# Altium integrated library Analog Devices Data Converters Analog-to-Digital Converters.IntLib: 2404 symbols (part 224 of 346)
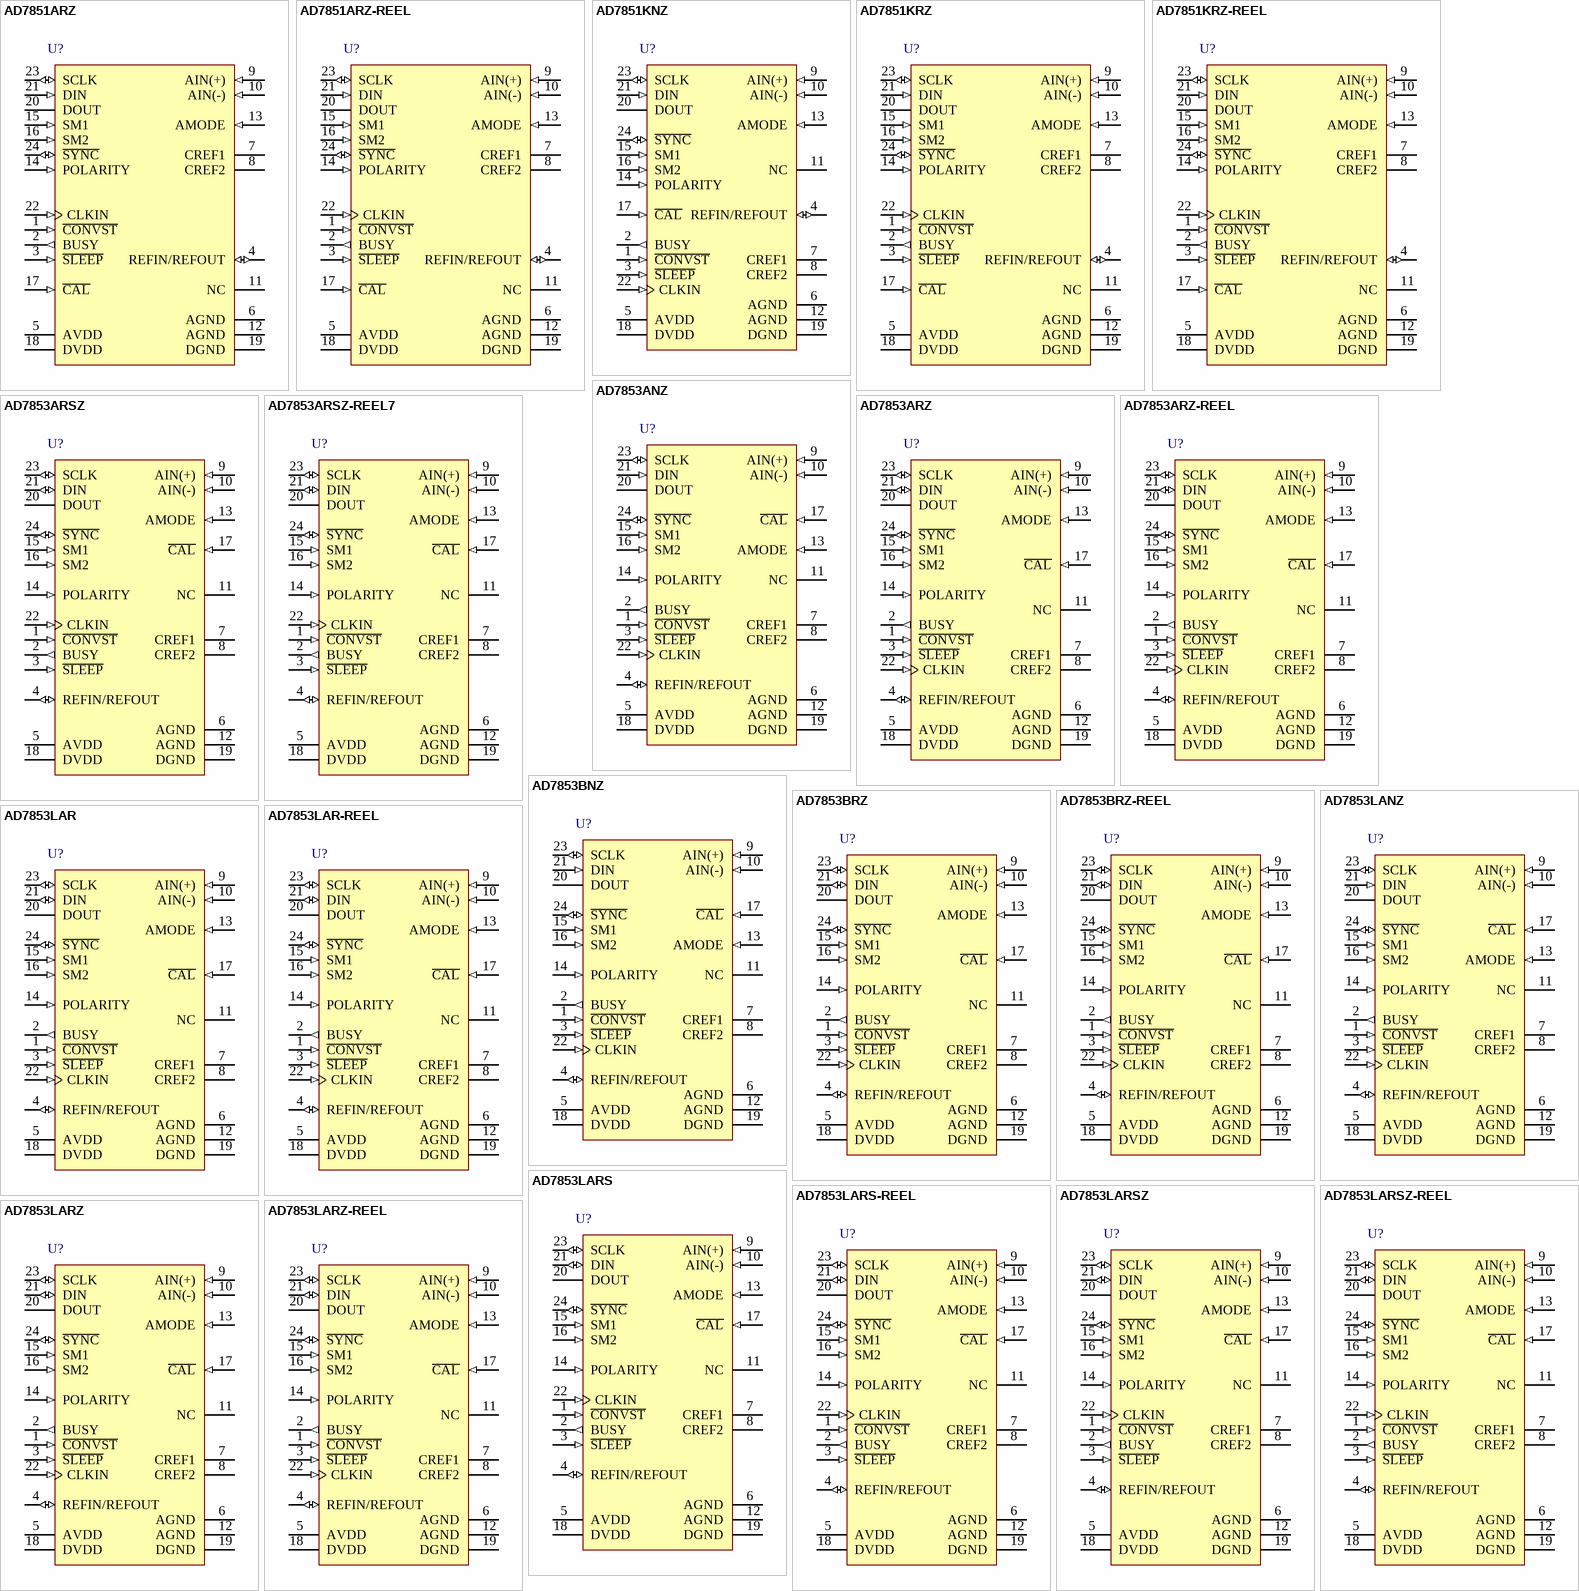
[diagram p275: symbols AD7851ARZ to AD7853LARZ-REEL]

## AD7851KNZ
designator U?
Single 14-Bit Analog-to-Digital Converter with Serial, SPI Interface, 285KSPS, 0 to +70 degC, N-24, Pb-Free, Tube; Generic Part Number: AD7851K; Manufacturer: Analog Devices; PartNumber: AD7851KNZ; Resolution (Bits): 14; Channels: 1; Throughput Rate (SPS): 285K; Interface: Ser, SPI; DatasheetVersion: Rev.B; PackageVersion: 2000; PackageReference: N-24; PackageDescription: 24-Lead Plastic Dual In-Line Package [PDIP]; Supplier 1: Digi-Key; Supplier Part Number 1: AD7851KNZ-ND; Supplier 2: Mouser; Supplier Part Number 2: 584-AD7851KNZ; RoHS: Y; Packing: Tube; Mounting Technology: Through-hole; ComponentLink1Description: Manufacturer URL; ComponentLink1URL: http://www.analog.com/en/index.html; ComponentLink2Description: Datasheet; ComponentLink2URL: http://www.analog.com/static/imported-files/data_sheets/AD7851.pdf; ComponentLink3Description: Package Specification; ComponentLink3URL: N-24; ComponentLink4Description: Product URL; ComponentLink4URL: http://www.analog.com/en/analog-to-digital-converters/ad-converters/ad7851/products/product.html
footprint N-24 (DIP, 24-Leads, Row Spacing 7.62mm, Pitch 2.54mm, Body 31.2x6.6mm)
pins: 1 ~{CONVST} (in) "Convert Start. Logic input. A low-to-high transition on this input puts the track-and-hold into its hold mode and starts conversion. When this input is not used, it should be tied to DVDD.", 2 BUSY (out) "Busy Output. The busy output is triggered high by the falling edge of C\O\N\V\S\T\ or rising edge of C\A\L\ and remains high until conversion is completed. BUSY is also used to indicate when the AD7851 has completed its (See Datasheet)", 3 ~{SLEEP} (in) "Sleep Input/Low Power Mode. A Logic 0 initiates a sleep and all circuitry is powered down, including the internal voltage reference, provided there is no conversion or calibration being performed. Calibration data is (See Datasheet)", 4 REFIN/REFOUT (io) "Reference Input/Output. This pin is connected to the internal reference through a series resistor and is the reference source for the analog-to-digital converter. The nominal reference voltage is 4.096 V and this appears at (See Datasheet)", 5 AVDD (power) "Analog Positive Supply Voltage, 5.0 V +/- 5%.", 6 AGND (power) "Analog Ground. Ground reference for track and hold, reference, and DAC.", 7 CREF1 "Reference Capacitor (0.1 uF ceramic disc in parallel with a 470 nF tantalum). This external capacitor is used as a charge source for the internal DAC. The capacitor should be tied between the pin and AGND.", 8 CREF2 "Reference Capacitor (0.01 uF ceramic disc). This external capacitor is used in conjunction with the on-chip reference. The capacitor should be tied between the pin and AGND.", 9 AIN(+) (in) "Analog Input. Positive input of the pseudo-differential analog input. Cannot go below AGND or above AVDD at any time and cannot go below AIN(-) when the unipolar input range is selected.", 10 AIN(-) (in) "Analog Input. Negative input of the pseudo-differential analog input. Cannot go below AGND or above AVDD at any time.", 11 NC "No Connect Pin.", 12 AGND (power) "Analog Ground. Ground reference for track and hold, reference, and DAC.", 13 AMODE (in) "Analog Mode Pin. This pin allows two different analog input ranges to be selected. A Logic 0 selects range 0 to VREF (i.e., AIN(+) - AIN(-) = 0 to VREF). In this case, AIN(+) cannot go below AIN(-) and AIN(-) cannot go below (See Datasheet)", 14 POLARITY (in) "Serial Clock Polarity. This pin determines the active edge of the serial clock (SCLK). Toggling this pin will reverse the active edge of the serial clock (SCLK). A Logic 1 means that the serial clock (SCLK) idles high and a (See Datasheet)", 15 SM1 (in) "Serial Mode Select Pin. This pin is used in conjunction with the SM2 pin to give different modes of operation as described in Table X.", 16 SM2 (in) "Serial Mode Select Pin. This pin is used in conjunction with the SM1 pin to give different modes of operation as described in Table X.", 17 ~{CAL} (in) "Calibration Input. This pin has an internal pull-up current source of 0.15 uA. A Logic 0 on this pin resets all calibration control logic and initiates a calibration on its rising edge. There is the option of connecting a 10 (See Datasheet)", 18 DVDD (power) "Digital Supply Voltage, 5.0 V +/- 5%.", 19 DGND (power) "Digital Ground. Ground reference point for digital circuitry.", 20 DOUT (hiz) "Serial Data Output. The data output is supplied to this pin as a 16-bit serial word.", 21 DIN (in) "Serial Data Input. The data to be written is applied to this pin in serial form (16-bit word). This pin can act as an input pin or as a input and output pin depending on the serial interface mode the part is in (see Table X).", 22 CLKIN (in) "Master Clock Signal for the Device (6 MHz or 7 MHz). Sets the conversion and calibration times.", 23 SCLK (io) "Serial Port Clock. Logic input/output. The SCLK pin is configured as an input or output, dependent on the type of serial data transmission (self-clocking or external-clocking) that has been selected by the SM1 and SM2 pins. (See Datasheet)", 24 ~{SYNC} (io) "This pin can be an input level triggered active low (similar to a chip select in one case and to a frame sync in the other) or an output (similar to a frame sync) pin depending on SM1, SM2 (see Table X)."

## AD7851KRZ
designator U?
Single 14-Bit Analog-to-Digital Converter with Serial, SPI Interface, 285KSPS, 0 to +70 degC, RW-24, Pb-Free, Tube; Generic Part Number: AD7851K; Manufacturer: Analog Devices; PartNumber: AD7851KRZ; Resolution (Bits): 14; Channels: 1; Throughput Rate (SPS): 285K; Interface: Ser, SPI; DatasheetVersion: Rev.B; PackageVersion: 060706-A; PackageReference: RW-24; PackageDescription: 24-Lead Standard Small Outline Package [SOIC_W]; Supplier 1: Digi-Key; Supplier Part Number 1: AD7851KRZ-ND; Supplier 2: Mouser; Supplier Part Number 2: 584-AD7851KRZ; RoHS: Y; Packing: Tube; Mounting Technology: Surface Mount; Code_JEDEC: MS-013-AD; ComponentLink1Description: Manufacturer URL; ComponentLink1URL: http://www.analog.com/en/index.html; ComponentLink2Description: Datasheet; ComponentLink2URL: http://www.analog.com/static/imported-files/data_sheets/AD7851.pdf; ComponentLink3Description: Package Specification; ComponentLink3URL: http://www.analog.com/static/imported-files/packages/33665150946139RW_24.pdf; ComponentLink4Description: Product URL; ComponentLink4URL: http://www.analog.com/en/analog-to-digital-converters/ad-converters/ad7851/products/product.html
footprint RW-24_N (SOIC, 24-Leads, Body 15.4x7.5mm, Pitch 1.27mm, IPC Medium Density)
footprint RW-24_L (SOIC, 24-Leads, Body 15.4x7.5mm, Pitch 1.27mm, IPC High Density)
footprint RW-24_M (SOIC, 24-Leads, Body 15.4x7.5mm, Pitch 1.27mm, IPC Low Density)
pins: 1 ~{CONVST} (in) "Convert Start. Logic input. A low-to-high transition on this input puts the track-and-hold into its hold mode and starts conversion. When this input is not used, it should be tied to DVDD.", 2 BUSY (out) "Busy Output. The busy output is triggered high by the falling edge of C\O\N\V\S\T\ or rising edge of C\A\L\ and remains high until conversion is completed. BUSY is also used to indicate when the AD7851 has completed its (See Datasheet)", 3 ~{SLEEP} (in) "Sleep Input/Low Power Mode. A Logic 0 initiates a sleep and all circuitry is powered down, including the internal voltage reference, provided there is no conversion or calibration being performed. Calibration data is (See Datasheet)", 4 REFIN/REFOUT (io) "Reference Input/Output. This pin is connected to the internal reference through a series resistor and is the reference source for the analog-to-digital converter. The nominal reference voltage is 4.096 V and this appears at (See Datasheet)", 5 AVDD (power) "Analog Positive Supply Voltage, 5.0 V +/- 5%.", 6 AGND (power) "Analog Ground. Ground reference for track and hold, reference, and DAC", 7 CREF1 "Reference Capacitor (0.1 μF ceramic disc in parallel with a 470 nF tantalum). This external capacitor is used as a charge source for the internal DAC. The capacitor should be tied between the pin and AGND.", 8 CREF2 "Reference Capacitor (0.01 μF ceramic disc). This external capacitor is used in conjunction with the on-chip reference. The capacitor should be tied between the pin and AGND.", 9 AIN(+) (in) "Analog Input. Positive input of the pseudo-differential analog input. Cannot go below AGND or above AVDD at any time and cannot go below AIN(-) when the unipolar input range is selected.", 10 AIN(-) (in) "Analog Input. Negative input of the pseudo-differential analog input. Cannot go below AGND or above AVDD at any time.", 11 NC "No Connect Pin.", 12 AGND (power) "Analog Ground. Ground reference for track and hold, reference, and DAC", 13 AMODE (in) "Analog Mode Pin. This pin allows two different analog input ranges to be selected. A Logic 0 selects range 0 to VREF (i.e., AIN(+) - AIN(-) = 0 to VREF). In this case, AIN(+) cannot go below AIN(-) and AIN(-) cannot go below (See Datasheet)", 14 POLARITY (in) "Serial Clock Polarity. This pin determines the active edge of the serial clock (SCLK). Toggling this pin will reverse the active edge of the serial clock (SCLK). A Logic 1 means that the serial clock (SCLK) idles high and a (See Datasheet)", 15 SM1 (in) "Serial Mode Select Pin. This pin is used in conjunction with the SM2 pin to give different modes of operation as described in Table X", 16 SM2 (in) "Serial Mode Select Pin. This pin is used in conjunction with the SM1 pin to give different modes of operation as described in Table X.", 17 ~{CAL} (in) "Calibration Input. This pin has an internal pull-up current source of 0.15 μA. A Logic 0 on this pin resets all calibration control logic and initiates a calibration on its rising edge. There is the option of connecting a 10 (See Datasheet)", 18 DVDD (power) "Digital Supply Voltage, 5.0 V +/- 5%.", 19 DGND (power) "Digital Ground. Ground reference point for digital circuitry.", 20 DOUT (hiz) "Serial Data Output. The data output is supplied to this pin as a 16-bit serial word.", 21 DIN (in) "Serial Data Input. The data to be written is applied to this pin in serial form (16-bit word). This pin can act as an input pin or as a input and output pin depending on the serial interface mode the part is in (see Table X).", 22 CLKIN (in) "Master Clock Signal for the Device (6 MHz or 7 MHz). Sets the conversion and calibration times.", 23 SCLK (io) "Serial Port Clock. Logic input/output. The SCLK pin is configured as an input or output, dependent on the type of serial data transmission (self-clocking or external-clocking) that has been selected by the SM1 and SM2 pins. (See Datasheet)", 24 ~{SYNC} (io) "This pin can be an input level triggered active low (similar to a chip select in one case and to a frame sync in the other) or an output (similar to a frame sync) pin depending on SM1, SM2 (see Table X)."

## AD7851KRZ-REEL
designator U?
Single 14-Bit Analog-to-Digital Converter with Serial, SPI Interface, 285KSPS, 0 to +70 degC, RW-24, Pb-Free, Reel; Generic Part Number: AD7851K; Manufacturer: Analog Devices; PartNumber: AD7851KRZ-REEL; Resolution (Bits): 14; Channels: 1; Throughput Rate (SPS): 285K; Interface: Ser, SPI; DatasheetVersion: Rev.B; PackageVersion: 060706-A; PackageReference: RW-24; PackageDescription: 24-Lead Standard Small Outline Package [SOIC_W]; Supplier 1: Digi-Key; Supplier Part Number 1: AD7851KRZ-REEL-ND; Supplier 2: Mouser; Supplier Part Number 2: 584-AD7851KRZ-R; RoHS: Y; Packing: Reel; Mounting Technology: Surface Mount; Code_JEDEC: MS-013-AD; ComponentLink1Description: Manufacturer URL; ComponentLink1URL: http://www.analog.com/en/index.html; ComponentLink2Description: Datasheet; ComponentLink2URL: http://www.analog.com/static/imported-files/data_sheets/AD7851.pdf; ComponentLink3Description: Package Specification; ComponentLink3URL: http://www.analog.com/static/imported-files/packages/33665150946139RW_24.pdf; ComponentLink4Description: Product URL; ComponentLink4URL: http://www.analog.com/en/analog-to-digital-converters/ad-converters/ad7851/products/product.html
footprint RW-24_N (SOIC, 24-Leads, Body 15.4x7.5mm, Pitch 1.27mm, IPC Medium Density)
footprint RW-24_L (SOIC, 24-Leads, Body 15.4x7.5mm, Pitch 1.27mm, IPC High Density)
footprint RW-24_M (SOIC, 24-Leads, Body 15.4x7.5mm, Pitch 1.27mm, IPC Low Density)
pins: 1 ~{CONVST} (in) "Convert Start. Logic input. A low-to-high transition on this input puts the track-and-hold into its hold mode and starts conversion. When this input is not used, it should be tied to DVDD.", 2 BUSY (out) "Busy Output. The busy output is triggered high by the falling edge of C\O\N\V\S\T\ or rising edge of C\A\L\ and remains high until conversion is completed. BUSY is also used to indicate when the AD7851 has completed its (See Datasheet)", 3 ~{SLEEP} (in) "Sleep Input/Low Power Mode. A Logic 0 initiates a sleep and all circuitry is powered down, including the internal voltage reference, provided there is no conversion or calibration being performed. Calibration data is (See Datasheet)", 4 REFIN/REFOUT (io) "Reference Input/Output. This pin is connected to the internal reference through a series resistor and is the reference source for the analog-to-digital converter. The nominal reference voltage is 4.096 V and this appears at (See Datasheet)", 5 AVDD (power) "Analog Positive Supply Voltage, 5.0 V +/- 5%.", 6 AGND (power) "Analog Ground. Ground reference for track and hold, reference, and DAC", 7 CREF1 "Reference Capacitor (0.1 μF ceramic disc in parallel with a 470 nF tantalum). This external capacitor is used as a charge source for the internal DAC. The capacitor should be tied between the pin and AGND.", 8 CREF2 "Reference Capacitor (0.01 μF ceramic disc). This external capacitor is used in conjunction with the on-chip reference. The capacitor should be tied between the pin and AGND.", 9 AIN(+) (in) "Analog Input. Positive input of the pseudo-differential analog input. Cannot go below AGND or above AVDD at any time and cannot go below AIN(-) when the unipolar input range is selected.", 10 AIN(-) (in) "Analog Input. Negative input of the pseudo-differential analog input. Cannot go below AGND or above AVDD at any time.", 11 NC "No Connect Pin.", 12 AGND (power) "Analog Ground. Ground reference for track and hold, reference, and DAC", 13 AMODE (in) "Analog Mode Pin. This pin allows two different analog input ranges to be selected. A Logic 0 selects range 0 to VREF (i.e., AIN(+) - AIN(-) = 0 to VREF). In this case, AIN(+) cannot go below AIN(-) and AIN(-) cannot go below (See Datasheet)", 14 POLARITY (in) "Serial Clock Polarity. This pin determines the active edge of the serial clock (SCLK). Toggling this pin will reverse the active edge of the serial clock (SCLK). A Logic 1 means that the serial clock (SCLK) idles high and a (See Datasheet)", 15 SM1 (in) "Serial Mode Select Pin. This pin is used in conjunction with the SM2 pin to give different modes of operation as described in Table X", 16 SM2 (in) "Serial Mode Select Pin. This pin is used in conjunction with the SM1 pin to give different modes of operation as described in Table X.", 17 ~{CAL} (in) "Calibration Input. This pin has an internal pull-up current source of 0.15 μA. A Logic 0 on this pin resets all calibration control logic and initiates a calibration on its rising edge. There is the option of connecting a 10 (See Datasheet)", 18 DVDD (power) "Digital Supply Voltage, 5.0 V +/- 5%.", 19 DGND (power) "Digital Ground. Ground reference point for digital circuitry.", 20 DOUT (hiz) "Serial Data Output. The data output is supplied to this pin as a 16-bit serial word.", 21 DIN (in) "Serial Data Input. The data to be written is applied to this pin in serial form (16-bit word). This pin can act as an input pin or as a input and output pin depending on the serial interface mode the part is in (see Table X).", 22 CLKIN (in) "Master Clock Signal for the Device (6 MHz or 7 MHz). Sets the conversion and calibration times.", 23 SCLK (io) "Serial Port Clock. Logic input/output. The SCLK pin is configured as an input or output, dependent on the type of serial data transmission (self-clocking or external-clocking) that has been selected by the SM1 and SM2 pins. (See Datasheet)", 24 ~{SYNC} (io) "This pin can be an input level triggered active low (similar to a chip select in one case and to a frame sync in the other) or an output (similar to a frame sync) pin depending on SM1, SM2 (see Table X)."

## AD7853ANZ
designator U?
Single 12-Bit Sampling Analog-to-Digital Converter with Serial, SPI Interface, Single Supply, 3 to 5 V 200KSPS, 0 to +70 degC, N-24-1, Pb-Free, Tube; Generic Part Number: AD7853A/B; Manufacturer: Analog Devices; PartNumber: AD7853ANZ; Resolution (Bits): 12; Channels: 1; Throughput Rate (SPS): 200K; Interface: Ser, SPI; DatasheetVersion: Rev.B; PackageVersion: 071006-A; PackageReference: N-24-1; PackageDescription: 24-Lead Plastic Dual In-Line Package [PDIP] Narrow Body; Supplier 1: Digi-Key; Supplier Part Number 1: AD7853ANZ-ND; RoHS: Y; Packing: Tube; Mounting Technology: Through-hole; Code_JEDEC: MS-001; ComponentLink1Description: Manufacturer URL; ComponentLink1URL: http://www.analog.com/en/index.html; ComponentLink2Description: Datasheet; ComponentLink2URL: http://www.analog.com/static/imported-files/data_sheets/AD7853_7853L.pdf; ComponentLink3Description: Package Specification; ComponentLink3URL: http://www.analog.com/static/imported-files/packages/50726455539629N_24_1.pdf; ComponentLink4Description: Product URL; ComponentLink4URL: http://www.analog.com/en/analog-to-digital-converters/ad-converters/ad7853/products/product.html
footprint N-24-1 (DIP, 24-Leads, Row Spacing 7.62mm, Pitch 2.54mm, Body 31.9x6.6mm)
pins: 1 ~{CONVST} (in) "Convert Start. Logic Input. A low to high transition on this input puts the track/hold into its hold mode and starts conversion. When this input is not used, it should be tied to DVDD.", 2 BUSY (out) "Busy Output. The busy output is triggered high by the falling edge of C\O\N\V\S\T\ or rising edge of C\A\L\, and remains high until conversion is completed. BUSY is also used to indicate when the AD7853/AD7853L has completed (See Datasheet)", 3 ~{SLEEP} (in) "Sleep Input/Low Power Mode. A Logic 0 initiates a sleep and all circuitry is powered down including the internal voltage reference provided there is no conversion or calibration being performed. Calibration data is retained. (See Datasheet)", 4 REFIN/REFOUT (io) "Reference Input/Output. This pin is connected to the internal reference through a series resistor and is the reference source for the analog-to-digital converter. The nominal reference voltage is 2.5 V and this appears at (See Datasheet)", 5 AVDD (power) "Analog Positive Supply Voltage, +3.0 V to +5.5 V.", 6 AGND (power) "Analog Ground. Ground reference for track/hold, reference and DAC.", 7 CREF1 "Reference Capacitor (0.1 uF multilayer ceramic). This external capacitor is used as a charge source for the internal DAC. The capacitor should be tied between the pin and AGND.", 8 CREF2 "Reference Capacitor (0.01 uF ceramic disc). This external capacitor is used in conjunction with the on-chip reference. The capacitor should be tied between the pin and AGND.", 9 AIN(+) (in) "Analog Input. Positive input of the pseudo-differential analog input. Cannot go below AGND or above AVDD at any time, and cannot go below AIN(-) when the unipolar input range is selected.", 10 AIN(-) (in) "Analog Input. Negative input of the pseudo-differential analog input. Cannot go below AGND or above AVDD at any time.", 11 NC "No Connect Pin.", 12 AGND (power) "Analog Ground. Ground reference for track/hold, reference and DAC.", 13 AMODE (in) "Analog Mode Pin. This pin allows two different analog input ranges to be selected. A Logic 0 selects range 0 to VREF (i.e., AIN(+) - AIN(-) = 0 to VREF). In this case AIN(+) cannot go below AIN(-) and AIN(-) cannot go below (See Datasheet)", 14 POLARITY (in) "Serial Clock Polarity. This pin determines the active edge of the serial clock (SCLK). Toggling this pin will reverse the active edge of the serial clock (SCLK). A Logic 1 means that the serial clock (SCLK) idles high and a (See Datasheet)", 15 SM1 (in) "Serial Mode Select Pin. This pin is used in conjunction with the SM2 pin to give different modes of operation as described in Table X.", 16 SM2 (in) "Serial Mode Select Pin. This pin is used in conjunction with the SM1 pin to give different modes of operation as described in Table X.", 17 ~{CAL} (in) "Calibration Input. This pin has an internal pull-up current source of 0.15 mA. A Logic 0 on this pin resets all calibration control logic and initiates a calibration on its rising edge. There is the option of connecting a 10 (See Datasheet)", 18 DVDD (power) "Digital Supply Voltage, +3.0 V to +5.5 V.", 19 DGND (power) "Digital Ground. Ground reference point for digital circuitry.", 20 DOUT (hiz) "Serial Data Output. The data output is supplied to this pin as a 16-bit serial word.", 21 DIN (in) "Serial Data Input. The data to be written is applied to this pin in serial form (16-bit word). This pin can act as an input pin or as a I/O pin depending on the serial interface mode the part is in (see Table X).", 22 CLKIN (in) "Master Clock Signal for the device (4 MHz for AD7853, 1.8 MHz for AD7853L). Sets the conversion and calibration times.", 23 SCLK (io) "Serial Port Clock. Logic input/output. The SCLK pin is configured as an input or output, dependent on the type of serial data transmission (self-clocking or external-clocking) that has been selected by the SM1 and SM2 pins. (See Datasheet)", 24 ~{SYNC} (io) "This pin can be an input level triggered active low (similar to a chip select in one case and to a frame sync in the other) or an output (similar to a frame sync) pin depending on SM1, SM2 (see Table X)."

## AD7853ARSZ
designator U?
Single 12-Bit Sampling Analog-to-Digital Converter with Serial, SPI Interface, Single Supply, 3 to 5 V 200KSPS, 0 to +70 degC, RS-24, Pb-Free, Tube; Generic Part Number: AD7853A/B; Manufacturer: Analog Devices; PartNumber: AD7853ARSZ; Resolution (Bits): 12; Channels: 1; Throughput Rate (SPS): 200K; Interface: Ser, SPI; DatasheetVersion: Rev.B; PackageVersion: Jan-2004; PackageReference: RS-24; PackageDescription: 24-Lead Shrink Small Outline Package [SSOP]; Supplier 1: Digi-Key; Supplier Part Number 1: AD7853ARSZ-ND; RoHS: Y; Packing: Tube; Mounting Technology: Surface Mount; Code_JEDEC: MO-150-AG; ComponentLink1Description: Manufacturer URL; ComponentLink1URL: http://www.analog.com/en/index.html; ComponentLink2Description: Datasheet; ComponentLink2URL: http://www.analog.com/static/imported-files/data_sheets/AD7853_7853L.pdf; ComponentLink3Description: Package Specification; ComponentLink3URL: http://www.analog.com/static/imported-files/packages/320374674442511497835109639857509214147739880195087340RS_24.pdf; ComponentLink4Description: Product URL; ComponentLink4URL: http://www.analog.com/en/analog-to-digital-converters/ad-converters/ad7853/products/product.html
footprint RS-24_N (SOP, 24-Leads, Body 8.2x5.3mm, Pitch 0.65mm, IPC Medium Density)
footprint RS-24_L (SOP, 24-Leads, Body 8.2x5.3mm, Pitch 0.65mm, IPC High Density)
footprint RS-24_M (SOP, 24-Leads, Body 8.2x5.3mm, Pitch 0.65mm, IPC Low Density)
pins: 1 ~{CONVST} (in) "Convert Start. Logic Input. A low to high transition on this input puts the track/hold into its hold mode and starts conversion. When this input is not used, it should be tied to DVDD.", 2 BUSY (out) "Busy Output. The busy output is triggered high by the falling edge of C\O\N\V\S\T\ or rising edge of C\A\L\, and remains high until conversion is completed. BUSY is also used to indicate when the AD7853/AD7853L has completed (See Datasheet)", 3 ~{SLEEP} (in) "Sleep Input/Low Power Mode. A Logic 0 initiates a sleep and all circuitry is powered down including the internal voltage reference provided there is no conversion or calibration being performed. Calibration data  is retained.(See Datasheet)", 4 REFIN/REFOUT (io) "Reference Input/Output. This pin is connected to the internal reference through a series resistor and is the  reference source for the analog-to-digital converter. The nominal reference voltage is 2.5 V and this appears at (See Datasheet)", 5 AVDD (power) "Analog Positive Supply Voltage, +3.0 V to +5.5 V.", 6 AGND (power) "Analog Ground. Ground reference for track/hold, reference and DAC.", 7 CREF1 "Reference Capacitor (0.1 uF multilayer ceramic). This external capacitor is used as a charge source for the internal DAC. The capacitor should be tied between the pin and AGND", 8 CREF2 "Reference Capacitor (0.01 uF ceramic disc). This external capacitor is used in conjunction with the on-chip reference. The capacitor should be tied between the pin and AGND.", 9 AIN(+) (in) "Analog Input. Positive input of the pseudo-differential analog input. Cannot go below AGND or above AVDD at any time, and cannot go below AIN(-) when the unipolar input range is selected.", 10 AIN(-) (in) "Analog Input. Negative input of the pseudo-differential analog input. Cannot go below AGND or above AVDD at any time.", 11 NC "No Connect Pin.", 12 AGND (power) "Analog Ground. Ground reference for track/hold, reference and DAC.", 13 AMODE (in) "Analog Mode Pin. This pin allows two different analog input ranges to be selected. A Logic 0 selects range 0 to VREF (i.e., AIN(+) - AIN(-) = 0 to VREF). In this case AIN(+) cannot go below AIN(-) and AIN(-) cannot go below (See Datasheet)", 14 POLARITY (in) "Serial Clock Polarity. This pin determines the active edge of the serial clock (SCLK). Toggling this pin will reverse the active edge of the serial clock (SCLK). A Logic 1 means that the serial clock (SCLK) idles high and a (See Datasheet)", 15 SM1 (in) "Serial Mode Select Pin. This pin is used in conjunction with the SM2 pin to give different modes of operation as described in Table X", 16 SM2 (in) "Serial Mode Select Pin. This pin is used in conjunction with the SM1 pin to give different modes of operation as described in Table X.", 17 ~{CAL} (in) "Calibration Input. This pin has an internal pull-up current source of 0.15 uA. A Logic 0 on this pin resets all calibration control logic and initiates a calibration on its rising edge. There is the option of connecting a 10 (See Datasheet)", 18 DVDD (power) "Digital Supply Voltage, +3.0 V to +5.5 V.", 19 DGND (power) "Digital Ground. Ground reference point for digital circuitry.", 20 DOUT (hiz) "Serial Data Output. The data output is supplied to this pin as a 16-bit serial word.", 21 DIN (io) "Serial Data Input. The data to be written is applied to this pin in serial form (16-bit word). This pin can act as an input pin or as a I/O pin depending on the serial interface mode the part is in (see Table X).", 22 CLKIN (in) "Master Clock Signal for the device (4 MHz for AD7853, 1.8 MHz for AD7853L). Sets the conversion  and calibration times.", 23 SCLK (io) "Serial Port Clock. Logic input/output. The SCLK pin is configured as an input or output, dependent on the type of serial data transmission (self-clocking or external-clocking) that has been selected by the SM1 and SM2 pins. (See Datasheet)", 24 ~{SYNC} (io) "This pin can be an input level triggered active low (similar to a chip select in one case and to a frame sync  in the other) or an output (similar to a frame sync) pin depending on SM1, SM2 (see Table X)."

## AD7853ARSZ-REEL7
designator U?
Single 12-Bit Sampling Analog-to-Digital Converter with Serial, SPI Interface, Single Supply, 3 to 5V 200KSPS, 0 to +70 degC, RS-24, Pb-Free, Reel; Generic Part Number: AD7853A/B; Manufacturer: Analog Devices; PartNumber: AD7853ARSZ-REEL7; Resolution (Bits): 12; Channels: 1; Throughput Rate (SPS): 200K; Interface: Ser, SPI; DatasheetVersion: Rev.B; PackageVersion: Jan-2004; PackageReference: RS-24; PackageDescription: 24-Lead Shrink Small Outline Package [SSOP]; Supplier 1: Digi-Key; Supplier Part Number 1: AD7853ARSZ-REEL7-ND; RoHS: Y; Packing: Reel; Mounting Technology: Surface Mount; Code_JEDEC: MO-150-AG; ComponentLink1Description: Manufacturer URL; ComponentLink1URL: http://www.analog.com/en/index.html; ComponentLink2Description: Datasheet; ComponentLink2URL: http://www.analog.com/static/imported-files/data_sheets/AD7853_7853L.pdf; ComponentLink3Description: Package Specification; ComponentLink3URL: http://www.analog.com/static/imported-files/packages/320374674442511497835109639857509214147739880195087340RS_24.pdf; ComponentLink4Description: Product URL; ComponentLink4URL: http://www.analog.com/en/analog-to-digital-converters/ad-converters/ad7853/products/product.html
footprint RS-24_N (SOP, 24-Leads, Body 8.2x5.3mm, Pitch 0.65mm, IPC Medium Density)
footprint RS-24_L (SOP, 24-Leads, Body 8.2x5.3mm, Pitch 0.65mm, IPC High Density)
footprint RS-24_M (SOP, 24-Leads, Body 8.2x5.3mm, Pitch 0.65mm, IPC Low Density)
pins: 1 ~{CONVST} (in) "Convert Start. Logic Input. A low to high transition on this input puts the track/hold into its hold mode and starts conversion. When this input is not used, it should be tied to DVDD.", 2 BUSY (out) "Busy Output. The busy output is triggered high by the falling edge of C\O\N\V\S\T\ or rising edge of C\A\L\, and remains high until conversion is completed. BUSY is also used to indicate when the AD7853/AD7853L has completed (See Datasheet)", 3 ~{SLEEP} (in) "Sleep Input/Low Power Mode. A Logic 0 initiates a sleep and all circuitry is powered down including the internal voltage reference provided there is no conversion or calibration being performed. Calibration data  is retained.(See Datasheet)", 4 REFIN/REFOUT (io) "Reference Input/Output. This pin is connected to the internal reference through a series resistor and is the  reference source for the analog-to-digital converter. The nominal reference voltage is 2.5 V and this appears at (See Datasheet)", 5 AVDD (power) "Analog Positive Supply Voltage, +3.0 V to +5.5 V.", 6 AGND (power) "Analog Ground. Ground reference for track/hold, reference and DAC.", 7 CREF1 "Reference Capacitor (0.1 uF multilayer ceramic). This external capacitor is used as a charge source for the internal DAC. The capacitor should be tied between the pin and AGND", 8 CREF2 "Reference Capacitor (0.01 uF ceramic disc). This external capacitor is used in conjunction with the on-chip reference. The capacitor should be tied between the pin and AGND.", 9 AIN(+) (in) "Analog Input. Positive input of the pseudo-differential analog input. Cannot go below AGND or above AVDD at any time, and cannot go below AIN(-) when the unipolar input range is selected.", 10 AIN(-) (in) "Analog Input. Negative input of the pseudo-differential analog input. Cannot go below AGND or above AVDD at any time.", 11 NC "No Connect Pin.", 12 AGND (power) "Analog Ground. Ground reference for track/hold, reference and DAC.", 13 AMODE (in) "Analog Mode Pin. This pin allows two different analog input ranges to be selected. A Logic 0 selects range 0 to VREF (i.e., AIN(+) - AIN(-) = 0 to VREF). In this case AIN(+) cannot go below AIN(-) and AIN(-) cannot go below (See Datasheet)", 14 POLARITY (in) "Serial Clock Polarity. This pin determines the active edge of the serial clock (SCLK). Toggling this pin will reverse the active edge of the serial clock (SCLK). A Logic 1 means that the serial clock (SCLK) idles high and a (See Datasheet)", 15 SM1 (in) "Serial Mode Select Pin. This pin is used in conjunction with the SM2 pin to give different modes of operation as described in Table X", 16 SM2 (in) "Serial Mode Select Pin. This pin is used in conjunction with the SM1 pin to give different modes of operation as described in Table X.", 17 ~{CAL} (in) "Calibration Input. This pin has an internal pull-up current source of 0.15 uA. A Logic 0 on this pin resets all calibration control logic and initiates a calibration on its rising edge. There is the option of connecting a 10 (See Datasheet)", 18 DVDD (power) "Digital Supply Voltage, +3.0 V to +5.5 V.", 19 DGND (power) "Digital Ground. Ground reference point for digital circuitry.", 20 DOUT (hiz) "Serial Data Output. The data output is supplied to this pin as a 16-bit serial word.", 21 DIN (io) "Serial Data Input. The data to be written is applied to this pin in serial form (16-bit word). This pin can act as an input pin or as a I/O pin depending on the serial interface mode the part is in (see Table X).", 22 CLKIN (in) "Master Clock Signal for the device (4 MHz for AD7853, 1.8 MHz for AD7853L). Sets the conversion  and calibration times.", 23 SCLK (io) "Serial Port Clock. Logic input/output. The SCLK pin is configured as an input or output, dependent on the type of serial data transmission (self-clocking or external-clocking) that has been selected by the SM1 and SM2 pins. (See Datasheet)", 24 ~{SYNC} (io) "This pin can be an input level triggered active low (similar to a chip select in one case and to a frame sync  in the other) or an output (similar to a frame sync) pin depending on SM1, SM2 (see Table X)."

## AD7853ARZ
designator U?
Single 12-Bit Sampling Analog-to-Digital Converter with Serial, SPI Interface, Single Supply, 3 to 5 V 200KSPS, 0 to +70 degC, RW-24, Pb-Free, Tube; Generic Part Number: AD7853A/B; Manufacturer: Analog Devices; PartNumber: AD7853ARZ; Resolution (Bits): 12; Channels: 1; Throughput Rate (SPS): 200K; Interface: Ser, SPI; DatasheetVersion: Rev.B; PackageVersion: 060706-A; PackageReference: RW-24; PackageDescription: 24-Lead Standard Small Outline Package [SOIC_W]; Supplier 1: Digi-Key; Supplier Part Number 1: AD7853ARZ-ND; Supplier 2: Newark; Supplier Part Number 2: 59K5675; Supplier 3: Mouser; Supplier Part Number 3: 584-AD7853ARZ; RoHS: Y; Packing: Tube; Mounting Technology: Surface Mount; Code_JEDEC: MS-013-AD; ComponentLink1Description: Manufacturer URL; ComponentLink1URL: http://www.analog.com/en/index.html; ComponentLink2Description: Datasheet; ComponentLink2URL: http://www.analog.com/static/imported-files/data_sheets/AD7853_7853L.pdf; ComponentLink3Description: Package Specification; ComponentLink3URL: http://www.analog.com/static/imported-files/packages/33665150946139RW_24.pdf; ComponentLink4Description: Product URL; ComponentLink4URL: http://www.analog.com/en/analog-to-digital-converters/ad-converters/ad7853/products/product.html
footprint RW-24_N (SOIC, 24-Leads, Body 15.4x7.5mm, Pitch 1.27mm, IPC Medium Density)
footprint RW-24_L (SOIC, 24-Leads, Body 15.4x7.5mm, Pitch 1.27mm, IPC High Density)
footprint RW-24_M (SOIC, 24-Leads, Body 15.4x7.5mm, Pitch 1.27mm, IPC Low Density)
pins: 1 ~{CONVST} (in) "Convert Start. Logic Input. A low to high transition on this input puts the track/hold into its hold mode and starts conversion. When this input is not used, it should be tied to DVDD.", 2 BUSY (out) "Busy Output. The busy output is triggered high by the falling edge of C\O\N\V\S\T\ or rising edge of C\A\L\, and remains high until conversion is completed. BUSY is also used to indicate when the AD7853/AD7853L has completed (See Datasheet)", 3 ~{SLEEP} (in) "Sleep Input/Low Power Mode. A Logic 0 initiates a sleep and all circuitry is powered down including the internal voltage reference provided there is no conversion or calibration being performed. Calibration data is retained. (See Datasheet)", 4 REFIN/REFOUT (io) "Reference Input/Output. This pin is connected to the internal reference through a series resistor and is the reference source for the analog-to-digital converter. The nominal reference voltage is 2.5 V and this appears at (See Datasheet)", 5 AVDD (power) "Analog Positive Supply Voltage, +3.0 V to +5.5 V.", 6 AGND (power) "Analog Ground. Ground reference for track/hold, reference and DAC.", 7 CREF1 "Reference Capacitor (0.1 uF multilayer ceramic). This external capacitor is used as a charge source for the internal DAC. The capacitor should be tied between the pin and AGND.", 8 CREF2 "Reference Capacitor (0.01 uF ceramic disc). This external capacitor is used in conjunction with the on-chip reference. The capacitor should be tied between the pin and AGND.", 9 AIN(+) (in) "Analog Input. Positive input of the pseudo-differential analog input. Cannot go below AGND or above AVDD at any time, and cannot go below AIN(-) when the unipolar input range is selected.", 10 AIN(-) (in) "Analog Input. Negative input of the pseudo-differential analog input. Cannot go below AGND or above AVDD at any time.", 11 NC "No Connect Pin.", 12 AGND (power) "Analog Ground. Ground reference for track/hold, reference and DAC.", 13 AMODE (in) "Analog Mode Pin. This pin allows two different analog input ranges to be selected. A Logic 0 selects range 0 to VREF (i.e., AIN(+) - AIN(-) = 0 to VREF). In this case AIN(+) cannot go below AIN(-) and AIN(-) cannot go below (See Datasheet)", 14 POLARITY (in) "Serial Clock Polarity. This pin determines the active edge of the serial clock (SCLK). Toggling this pin will reverse the active edge of the serial clock (SCLK). A Logic 1 means that the serial clock (SCLK) idles high and a (See Datasheet)", 15 SM1 (in) "Serial Mode Select Pin. This pin is used in conjunction with the SM2 pin to give different modes of operation as described in Table X.", 16 SM2 (in) "Serial Mode Select Pin. This pin is used in conjunction with the SM1 pin to give different modes of operation as described in Table X.", 17 ~{CAL} (in) "Calibration Input. This pin has an internal pull-up current source of 0.15 uA. A Logic 0 on this pin resets all calibration control logic and initiates a calibration on its rising edge. There is the option of connecting a 10 (See Datasheet)", 18 DVDD (power) "Digital Supply Voltage, +3.0 V to +5.5 V.", 19 DGND (power) "Digital Ground. Ground reference point for digital circuitry.", 20 DOUT (hiz) "Serial Data Output. The data output is supplied to this pin as a 16-bit serial word.", 21 DIN (io) "Serial Data Input. The data to be written is applied to this pin in serial form (16-bit word). This pin can act as an input pin or as a I/O pin depending on the serial interface mode the part is in (see Table X).", 22 CLKIN (in) "Master Clock Signal for the device (4 MHz for AD7853, 1.8 MHz for AD7853L). Sets the conversion and calibration times.", 23 SCLK (io) "Serial Port Clock. Logic input/output. The SCLK pin is configured as an input or output, dependent on the type of serial data transmission (self-clocking or external-clocking) that has been selected by the SM1 and SM2 pins. (See Datasheet)", 24 ~{SYNC} (io) "This pin can be an input level triggered active low (similar to a chip select in one case and to a frame sync in the other) or an output (similar to a frame sync) pin depending on SM1, SM2 (see Table X)."

## AD7853ARZ-REEL
designator U?
Single 12-Bit Sampling Analog-to-Digital Converter with Serial, SPI Interface, Single Supply, 3 to 5 V 200KSPS, 0 to +70 degC, RW-24, Pb-Free, Reel; Generic Part Number: AD7853A/B; Manufacturer: Analog Devices; PartNumber: AD7853ARZ-REEL; Resolution (Bits): 12; Channels: 1; Throughput Rate (SPS): 200K; Interface: Ser, SPI; DatasheetVersion: Rev.B; PackageVersion: 060706-A; PackageReference: RW-24; PackageDescription: 24-Lead Standard Small Outline Package [SOIC_W]; Supplier 1: Digi-Key; Supplier Part Number 1: AD7853ARZ-REEL-ND; Supplier 2: Newark; Supplier Part Number 2: 59K5676; Supplier 3: Mouser; Supplier Part Number 3: 584-AD7853ARZ-R; RoHS: Y; Packing: Reel; Mounting Technology: Surface Mount; Code_JEDEC: MS-013-AD; ComponentLink1Description: Manufacturer URL; ComponentLink1URL: http://www.analog.com/en/index.html; ComponentLink2Description: Datasheet; ComponentLink2URL: http://www.analog.com/static/imported-files/data_sheets/AD7853_7853L.pdf; ComponentLink3Description: Package Specification; ComponentLink3URL: http://www.analog.com/static/imported-files/packages/33665150946139RW_24.pdf; ComponentLink4Description: Product URL; ComponentLink4URL: http://www.analog.com/en/analog-to-digital-converters/ad-converters/ad7853/products/product.html
footprint RW-24_N (SOIC, 24-Leads, Body 15.4x7.5mm, Pitch 1.27mm, IPC Medium Density)
footprint RW-24_L (SOIC, 24-Leads, Body 15.4x7.5mm, Pitch 1.27mm, IPC High Density)
footprint RW-24_M (SOIC, 24-Leads, Body 15.4x7.5mm, Pitch 1.27mm, IPC Low Density)
pins: 1 ~{CONVST} (in) "Convert Start. Logic Input. A low to high transition on this input puts the track/hold into its hold mode and starts conversion. When this input is not used, it should be tied to DVDD.", 2 BUSY (out) "Busy Output. The busy output is triggered high by the falling edge of C\O\N\V\S\T\ or rising edge of C\A\L\, and remains high until conversion is completed. BUSY is also used to indicate when the AD7853/AD7853L has completed (See Datasheet)", 3 ~{SLEEP} (in) "Sleep Input/Low Power Mode. A Logic 0 initiates a sleep and all circuitry is powered down including the internal voltage reference provided there is no conversion or calibration being performed. Calibration data is retained. (See Datasheet)", 4 REFIN/REFOUT (io) "Reference Input/Output. This pin is connected to the internal reference through a series resistor and is the reference source for the analog-to-digital converter. The nominal reference voltage is 2.5 V and this appears at (See Datasheet)", 5 AVDD (power) "Analog Positive Supply Voltage, +3.0 V to +5.5 V.", 6 AGND (power) "Analog Ground. Ground reference for track/hold, reference and DAC.", 7 CREF1 "Reference Capacitor (0.1 uF multilayer ceramic). This external capacitor is used as a charge source for the internal DAC. The capacitor should be tied between the pin and AGND.", 8 CREF2 "Reference Capacitor (0.01 uF ceramic disc). This external capacitor is used in conjunction with the on-chip reference. The capacitor should be tied between the pin and AGND.", 9 AIN(+) (in) "Analog Input. Positive input of the pseudo-differential analog input. Cannot go below AGND or above AVDD at any time, and cannot go below AIN(-) when the unipolar input range is selected.", 10 AIN(-) (in) "Analog Input. Negative input of the pseudo-differential analog input. Cannot go below AGND or above AVDD at any time.", 11 NC "No Connect Pin.", 12 AGND (power) "Analog Ground. Ground reference for track/hold, reference and DAC.", 13 AMODE (in) "Analog Mode Pin. This pin allows two different analog input ranges to be selected. A Logic 0 selects range 0 to VREF (i.e., AIN(+) - AIN(-) = 0 to VREF). In this case AIN(+) cannot go below AIN(-) and AIN(-) cannot go below (See Datasheet)", 14 POLARITY (in) "Serial Clock Polarity. This pin determines the active edge of the serial clock (SCLK). Toggling this pin will reverse the active edge of the serial clock (SCLK). A Logic 1 means that the serial clock (SCLK) idles high and a (See Datasheet)", 15 SM1 (in) "Serial Mode Select Pin. This pin is used in conjunction with the SM2 pin to give different modes of operation as described in Table X.", 16 SM2 (in) "Serial Mode Select Pin. This pin is used in conjunction with the SM1 pin to give different modes of operation as described in Table X.", 17 ~{CAL} (in) "Calibration Input. This pin has an internal pull-up current source of 0.15 uA. A Logic 0 on this pin resets all calibration control logic and initiates a calibration on its rising edge. There is the option of connecting a 10 (See Datasheet)", 18 DVDD (power) "Digital Supply Voltage, +3.0 V to +5.5 V.", 19 DGND (power) "Digital Ground. Ground reference point for digital circuitry.", 20 DOUT (hiz) "Serial Data Output. The data output is supplied to this pin as a 16-bit serial word.", 21 DIN (io) "Serial Data Input. The data to be written is applied to this pin in serial form (16-bit word). This pin can act as an input pin or as a I/O pin depending on the serial interface mode the part is in (see Table X).", 22 CLKIN (in) "Master Clock Signal for the device (4 MHz for AD7853, 1.8 MHz for AD7853L). Sets the conversion and calibration times.", 23 SCLK (io) "Serial Port Clock. Logic input/output. The SCLK pin is configured as an input or output, dependent on the type of serial data transmission (self-clocking or external-clocking) that has been selected by the SM1 and SM2 pins. (See Datasheet)", 24 ~{SYNC} (io) "This pin can be an input level triggered active low (similar to a chip select in one case and to a frame sync in the other) or an output (similar to a frame sync) pin depending on SM1, SM2 (see Table X)."

## AD7853BNZ
designator U?
Single 12-Bit Sampling Analog-to-Digital Converter with Serial, SPI Interface, Single Supply, 3 to 5 V 200KSPS, 0 to +70 degC, N-24-1, Pb-Free, Tube; Generic Part Number: AD7853A/B; Manufacturer: Analog Devices; PartNumber: AD7853BNZ; Resolution (Bits): 12; Channels: 1; Throughput Rate (SPS): 200K; Interface: Ser, SPI; DatasheetVersion: Rev.B; PackageVersion: 071006-A; PackageReference: N-24-1; PackageDescription: 24-Lead Plastic Dual In-Line Package [PDIP] Narrow Body; Supplier 1: Digi-Key; Supplier Part Number 1: AD7853BNZ-ND; RoHS: Y; Packing: Tube; Mounting Technology: Through-hole; Code_JEDEC: MS-001; ComponentLink1Description: Manufacturer URL; ComponentLink1URL: http://www.analog.com/en/index.html; ComponentLink2Description: Datasheet; ComponentLink2URL: http://www.analog.com/static/imported-files/data_sheets/AD7853_7853L.pdf; ComponentLink3Description: Package Specification; ComponentLink3URL: http://www.analog.com/static/imported-files/packages/50726455539629N_24_1.pdf; ComponentLink4Description: Product URL; ComponentLink4URL: http://www.analog.com/en/analog-to-digital-converters/ad-converters/ad7853/products/product.html
footprint N-24-1 (DIP, 24-Leads, Row Spacing 7.62mm, Pitch 2.54mm, Body 31.9x6.6mm)
pins: 1 ~{CONVST} (in) "Convert Start. Logic Input. A low to high transition on this input puts the track/hold into its hold mode and starts conversion. When this input is not used, it should be tied to DVDD.", 2 BUSY (out) "Busy Output. The busy output is triggered high by the falling edge of C\O\N\V\S\T\ or rising edge of C\A\L\, and remains high until conversion is completed. BUSY is also used to indicate when the AD7853/AD7853L has completed (See Datasheet)", 3 ~{SLEEP} (in) "Sleep Input/Low Power Mode. A Logic 0 initiates a sleep and all circuitry is powered down including the internal voltage reference provided there is no conversion or calibration being performed. Calibration data is retained. (See Datasheet)", 4 REFIN/REFOUT (io) "Reference Input/Output. This pin is connected to the internal reference through a series resistor and is the reference source for the analog-to-digital converter. The nominal reference voltage is 2.5 V and this appears at (See Datasheet)", 5 AVDD (power) "Analog Positive Supply Voltage, +3.0 V to +5.5 V.", 6 AGND (power) "Analog Ground. Ground reference for track/hold, reference and DAC.", 7 CREF1 "Reference Capacitor (0.1 uF multilayer ceramic). This external capacitor is used as a charge source for the internal DAC. The capacitor should be tied between the pin and AGND.", 8 CREF2 "Reference Capacitor (0.01 uF ceramic disc). This external capacitor is used in conjunction with the on-chip reference. The capacitor should be tied between the pin and AGND.", 9 AIN(+) (in) "Analog Input. Positive input of the pseudo-differential analog input. Cannot go below AGND or above AVDD at any time, and cannot go below AIN(-) when the unipolar input range is selected.", 10 AIN(-) (in) "Analog Input. Negative input of the pseudo-differential analog input. Cannot go below AGND or above AVDD at any time.", 11 NC "No Connect Pin.", 12 AGND (power) "Analog Ground. Ground reference for track/hold, reference and DAC.", 13 AMODE (in) "Analog Mode Pin. This pin allows two different analog input ranges to be selected. A Logic 0 selects range 0 to VREF (i.e., AIN(+) - AIN(-) = 0 to VREF). In this case AIN(+) cannot go below AIN(-) and AIN(-) cannot go below (See Datasheet)", 14 POLARITY (in) "Serial Clock Polarity. This pin determines the active edge of the serial clock (SCLK). Toggling this pin will reverse the active edge of the serial clock (SCLK). A Logic 1 means that the serial clock (SCLK) idles high and a (See Datasheet)", 15 SM1 (in) "Serial Mode Select Pin. This pin is used in conjunction with the SM2 pin to give different modes of operation as described in Table X.", 16 SM2 (in) "Serial Mode Select Pin. This pin is used in conjunction with the SM1 pin to give different modes of operation as described in Table X.", 17 ~{CAL} (in) "Calibration Input. This pin has an internal pull-up current source of 0.15 mA. A Logic 0 on this pin resets all calibration control logic and initiates a calibration on its rising edge. There is the option of connecting a 10 (See Datasheet)", 18 DVDD (power) "Digital Supply Voltage, +3.0 V to +5.5 V.", 19 DGND (power) "Digital Ground. Ground reference point for digital circuitry.", 20 DOUT (hiz) "Serial Data Output. The data output is supplied to this pin as a 16-bit serial word.", 21 DIN (in) "Serial Data Input. The data to be written is applied to this pin in serial form (16-bit word). This pin can act as an input pin or as a I/O pin depending on the serial interface mode the part is in (see Table X).", 22 CLKIN (in) "Master Clock Signal for the device (4 MHz for AD7853, 1.8 MHz for AD7853L). Sets the conversion and calibration times.", 23 SCLK (io) "Serial Port Clock. Logic input/output. The SCLK pin is configured as an input or output, dependent on the type of serial data transmission (self-clocking or external-clocking) that has been selected by the SM1 and SM2 pins. (See Datasheet)", 24 ~{SYNC} (io) "This pin can be an input level triggered active low (similar to a chip select in one case and to a frame sync in the other) or an output (similar to a frame sync) pin depending on SM1, SM2 (see Table X)."